# EAGLE library part CH340G (library ytani1)
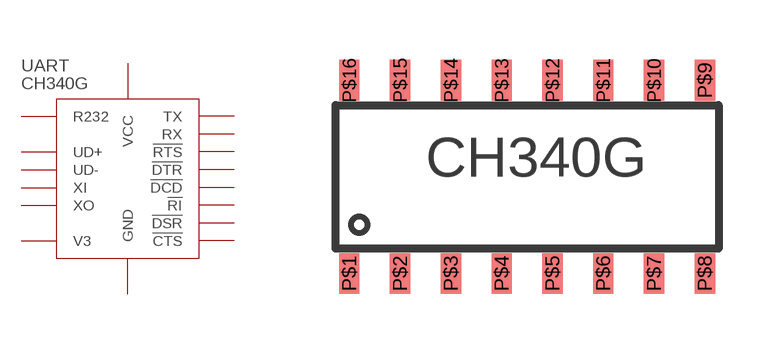
[diagram p4: symbol with the pads of CH340G; footprint CH340G]

Designator prefix UART

## CH340G  [CH340G]
P$1  GND
P$2  TX
P$3  RX
P$4  V3
P$5  UD+
P$6  UD-
P$7  XI
P$8  XO
P$9  !CTS
P$10  !DSR
P$11  !RI
P$12  !DCD
P$13  !DTR
P$14  !RTS
P$15  R232
P$16  VCC

## Footprint CH340G (pad centres in mm)
smd 0.508 x 1.016: P$1 -4.445,-2.413; P$2 -3.175,-2.413; P$3 -1.905,-2.413; P$4 -0.635,-2.413; P$5 0.635,-2.413; P$6 1.905,-2.413; P$7 3.175,-2.413; P$8 4.445,-2.413; P$9 4.445,2.413; P$10 3.175,2.413; P$11 1.905,2.413; P$12 0.635,2.413; P$13 -0.635,2.413; P$14 -1.905,2.413; P$15 -3.175,2.413; P$16 -4.445,2.413